# Altium schematic symbol library TSW-104-05-G-S.SchLib: 1 symbol
Pins are listed as number, name and electrical type; pins without a type are passive.

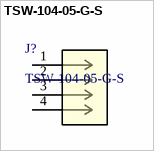
[diagram p0: symbol TSW-104-05-G-S]

## TSW-104-05-G-S
designator J?
No Description Available; Manufacturer_Name: Samtec Inc; Copyright: Copyright (C) 2026 Ultra Librarian. All rights reserved.; Manufacturer_Part_Number: TSW-104-05-G-S; RefDes: RefDes; Type: Type
footprint CON4_1X4_TU_TSW
pins: 1, 2, 3, 4